# Altium schematic symbol library Schlib1.SchLib: 2 symbols
Pins are listed as number, name and electrical type; pins without a type are passive.

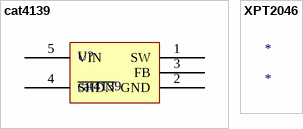
[diagram p0: symbols cat4139 to XPT2046]

## cat4139
designator U?
footprint SOT23-5 (封装库来自淘宝卖家 ID：黄晶宝石)
pins: 1 SW, 2 GND, 3 FB, 4 ~{SHDN}, 5 VIN

## XPT2046
designator *